# EAGLE library part 178780 (library con-tyco-custom)
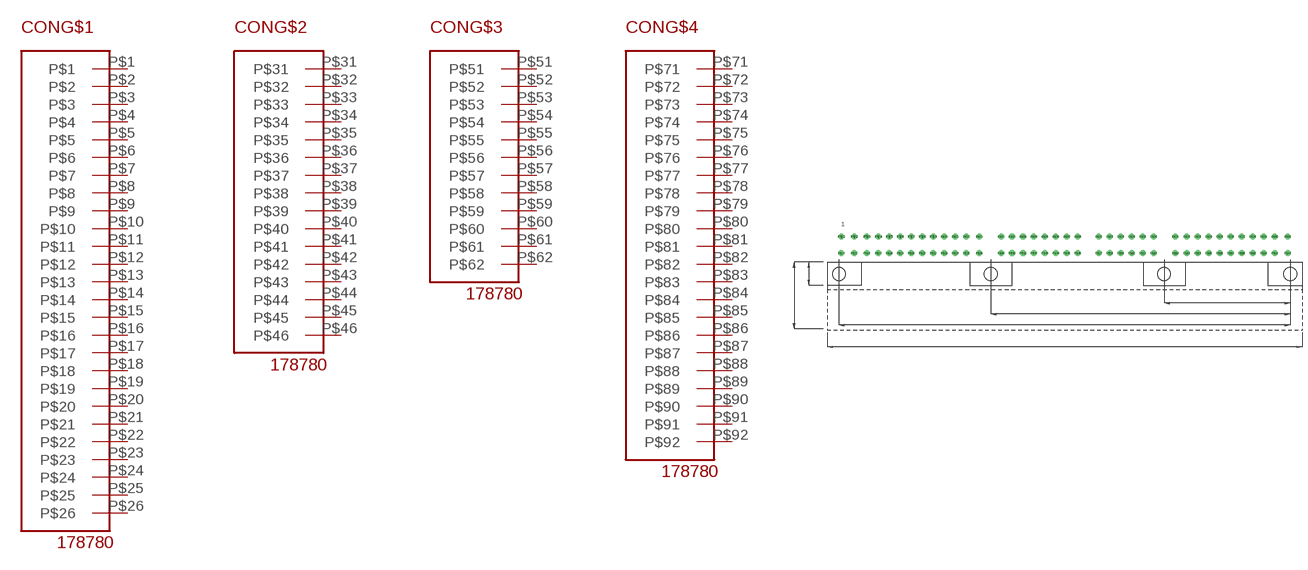
[diagram p1: symbol with the pads of 178780; footprint 178780]

Designator prefix CON; gates G$1=040/070_HYBRID_26PIN G$2=040/070_HYBRID_16PIN G$3=040/070_HYBRID_12PIN G$4=040/070_HYRBID_22PIN

## 178780  [178780]
P$1  G$1:P$1  pas
P$2  G$1:P$2  pas
P$3  G$1:P$3  pas
P$4  G$1:P$4  pas
P$5  G$1:P$5  pas
P$6  G$1:P$6  pas
P$7  G$1:P$7  pas
P$8  G$1:P$8  pas
P$9  G$1:P$9  pas
P$10  G$1:P$10  pas
P$11  G$1:P$11  pas
P$12  G$1:P$12  pas
P$13  G$1:P$13  pas
P$14  G$1:P$14  pas
P$15  G$1:P$15  pas
P$16  G$1:P$16  pas
P$17  G$1:P$17  pas
P$18  G$1:P$18  pas
P$19  G$1:P$19  pas
P$20  G$1:P$20  pas
P$21  G$1:P$21  pas
P$22  G$1:P$22  pas
P$23  G$1:P$23  pas
P$24  G$1:P$24  pas
P$25  G$1:P$25  pas
P$26  G$1:P$26  pas
P$31  G$2:P$31  pas
P$32  G$2:P$32  pas
P$33  G$2:P$33  pas
P$34  G$2:P$34  pas
P$35  G$2:P$35  pas
P$36  G$2:P$36  pas
P$37  G$2:P$37  pas
P$38  G$2:P$38  pas
P$39  G$2:P$39  pas
P$40  G$2:P$40  pas
P$41  G$2:P$41  pas
P$42  G$2:P$42  pas
P$43  G$2:P$43  pas
P$44  G$2:P$44  pas
P$45  G$2:P$45  pas
P$46  G$2:P$46  pas
P$51  G$3:P$51  pas
P$52  G$3:P$52  pas
P$53  G$3:P$53  pas
P$54  G$3:P$54  pas
P$55  G$3:P$55  pas
P$56  G$3:P$56  pas
P$57  G$3:P$57  pas
P$58  G$3:P$58  pas
P$59  G$3:P$59  pas
P$60  G$3:P$60  pas
P$61  G$3:P$61  pas
P$62  G$3:P$62  pas
P$71  G$4:P$71  pas
P$72  G$4:P$72  pas
P$73  G$4:P$73  pas
P$74  G$4:P$74  pas
P$75  G$4:P$75  pas
P$76  G$4:P$76  pas
P$77  G$4:P$77  pas
P$78  G$4:P$78  pas
P$79  G$4:P$79  pas
P$80  G$4:P$80  pas
P$81  G$4:P$81  pas
P$82  G$4:P$82  pas
P$83  G$4:P$83  pas
P$84  G$4:P$84  pas
P$85  G$4:P$85  pas
P$86  G$4:P$86  pas
P$87  G$4:P$87  pas
P$88  G$4:P$88  pas
P$89  G$4:P$89  pas
P$90  G$4:P$90  pas
P$91  G$4:P$91  pas
P$92  G$4:P$92  pas

## Footprint 178780 (pad centres in mm)
drill 1.1: P$1 -122,10.2; P$2 -118.5,10.2; P$3 -115,10.2; P$4 -111.9,10.2; P$5 -108.9,10.2; P$6 -105.9,10.2; P$7 -102.9,10.2; P$8 -99.9,10.2; P$9 -96.9,10.2; P$10 -93.9,10.2; P$11 -90.9,10.2; P$12 -87.8,10.2; P$13 -84.3,10.2; P$14 -122,5.7; P$15 -118.5,5.7; P$16 -115,5.7; P$17 -111.9,5.7; P$18 -108.9,5.7; P$19 -105.9,5.7; P$20 -102.9,5.7; P$21 -99.9,5.7; P$22 -96.9,5.7; P$23 -93.9,5.7; P$24 -90.9,5.7; P$25 -87.8,5.7; P$26 -84.3,5.7; P$31 -78.35,10.2; P$32 -75.35,10.2; P$33 -72.35,10.2; P$34 -69.35,10.2; P$35 -66.35,10.2; P$36 -63.35,10.2; P$37 -60.35,10.2; P$38 -57.35,10.2; P$39 -78.35,5.7; P$40 -75.35,5.7; P$41 -72.35,5.7; P$42 -69.35,5.7; P$43 -66.35,5.7; P$44 -63.35,5.7; P$45 -60.35,5.7; P$46 -57.35,5.7; P$51 -51.65,10.2; P$52 -48.65,10.2; P$53 -45.65,10.2; P$54 -42.65,10.2; P$55 -39.65,10.2; P$56 -36.65,10.2; P$57 -51.65,5.7; P$58 -48.65,5.7; P$59 -45.65,5.7; P$60 -42.65,5.7; P$61 -39.65,5.7; P$62 -36.65,5.7; P$71 -30.7,10.2; P$72 -27.6,10.2; P$73 -24.6,10.2; P$74 -21.6,10.2; P$75 -18.6,10.2; P$76 -15.6,10.2; P$77 -12.6,10.2; P$78 -9.6,10.2; P$79 -6.6,10.2; P$80 -3.5,10.2; P$81 0,10.2; P$82 -30.7,5.7; P$83 -27.6,5.7; P$84 -24.6,5.7; P$85 -21.6,5.7; P$86 -18.6,5.7; P$87 -15.6,5.7; P$88 -12.6,5.7; P$89 -9.6,5.7; P$90 -6.6,5.7; P$91 -3.5,5.7; P$92 0,5.7
hole 3.5 at -33.8,0
hole 3.5 at -81.2,0
hole 3.5 at 0.65,0
hole 3.5 at -122.65,0